# Altium footprint library Local_Parts.PcbLib: 1 footprints
Each footprint in its own frame and in the unit in brackets; x right, y up, seen from the top. Pads: shape width x height; smd on the part's side, far side on the other; paste and mask are expansions set on the pad; w line width, h text height; cw(c..) or ccw(c..) is an arc to the next point about the centre after c.
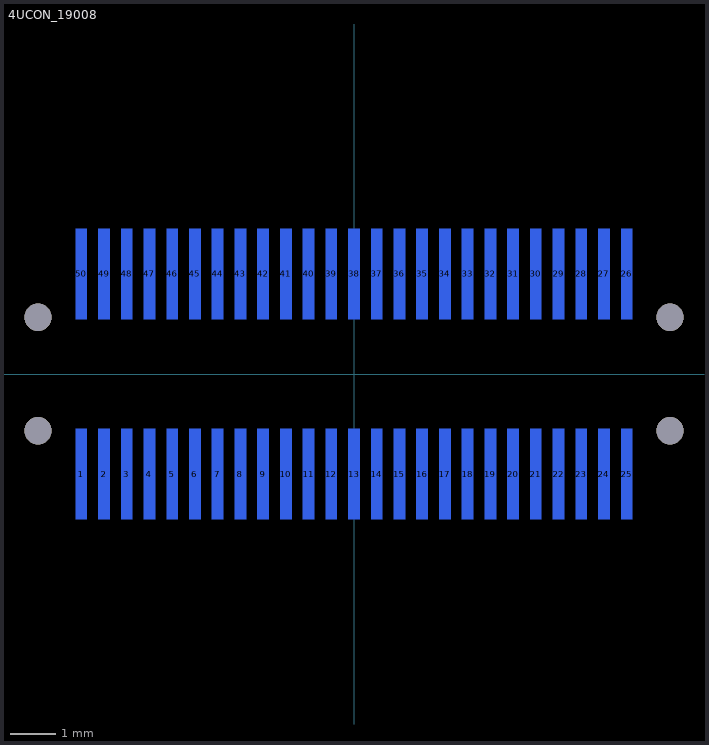
[diagram p0: the footprint, top view; thin cyan lines are the x and y axes]

## 4UCON_19008 [mm]
pads (50):
  rect 0.25x2 smd far side: 1(-6,-2.2) 2(-5.5,-2.2) 3(-5,-2.2) 4(-4.5,-2.2) 5(-4,-2.2) 6(-3.5,-2.2) 7(-3,-2.2) 8(-2.5,-2.2) 9(-2,-2.2) 10(-1.5,-2.2) 11(-1,-2.2) 12(-0.5,-2.2) 13(0,-2.2) 14(0.5,-2.2) 15(1,-2.2) 16(1.5,-2.2) 17(2,-2.2) 18(2.5,-2.2) 19(3,-2.2) 20(3.5,-2.2) 21(4,-2.2) 22(4.5,-2.2) 23(5,-2.2) 24(5.5,-2.2) 25(6,-2.2) 26(6,2.2) 27(5.5,2.2) 28(5,2.2) 29(4.5,2.2) 30(4,2.2) 31(3.5,2.2) 32(3,2.2) 33(2.5,2.2) 34(2,2.2) 35(1.5,2.2) 36(1,2.2) 37(0.5,2.2) 38(0,2.2) 39(-0.5,2.2) 40(-1,2.2) 41(-1.5,2.2) 42(-2,2.2) 43(-2.5,2.2) 44(-3,2.2) 45(-3.5,2.2) 46(-4,2.2) 47(-4.5,2.2) 48(-5,2.2) 49(-5.5,2.2) 50(-6,2.2)
via -6.95,-1.25 diameter 0.6 hole 0.6
via 6.95,-1.25 diameter 0.6 hole 0.6
via -6.95,1.25 diameter 0.6 hole 0.6
via 6.95,1.25 diameter 0.6 hole 0.6